# Altium footprint library common.PcbLib: 92 footprints (part 2 of 6)
Each footprint in its own frame and in the unit in brackets; x right, y up, seen from the top. Pads: shape width x height; smd on the part's side, far side on the other; paste and mask are expansions set on the pad; w line width, h text height; cw(c..) or ccw(c..) is an arc to the next point about the centre after c.
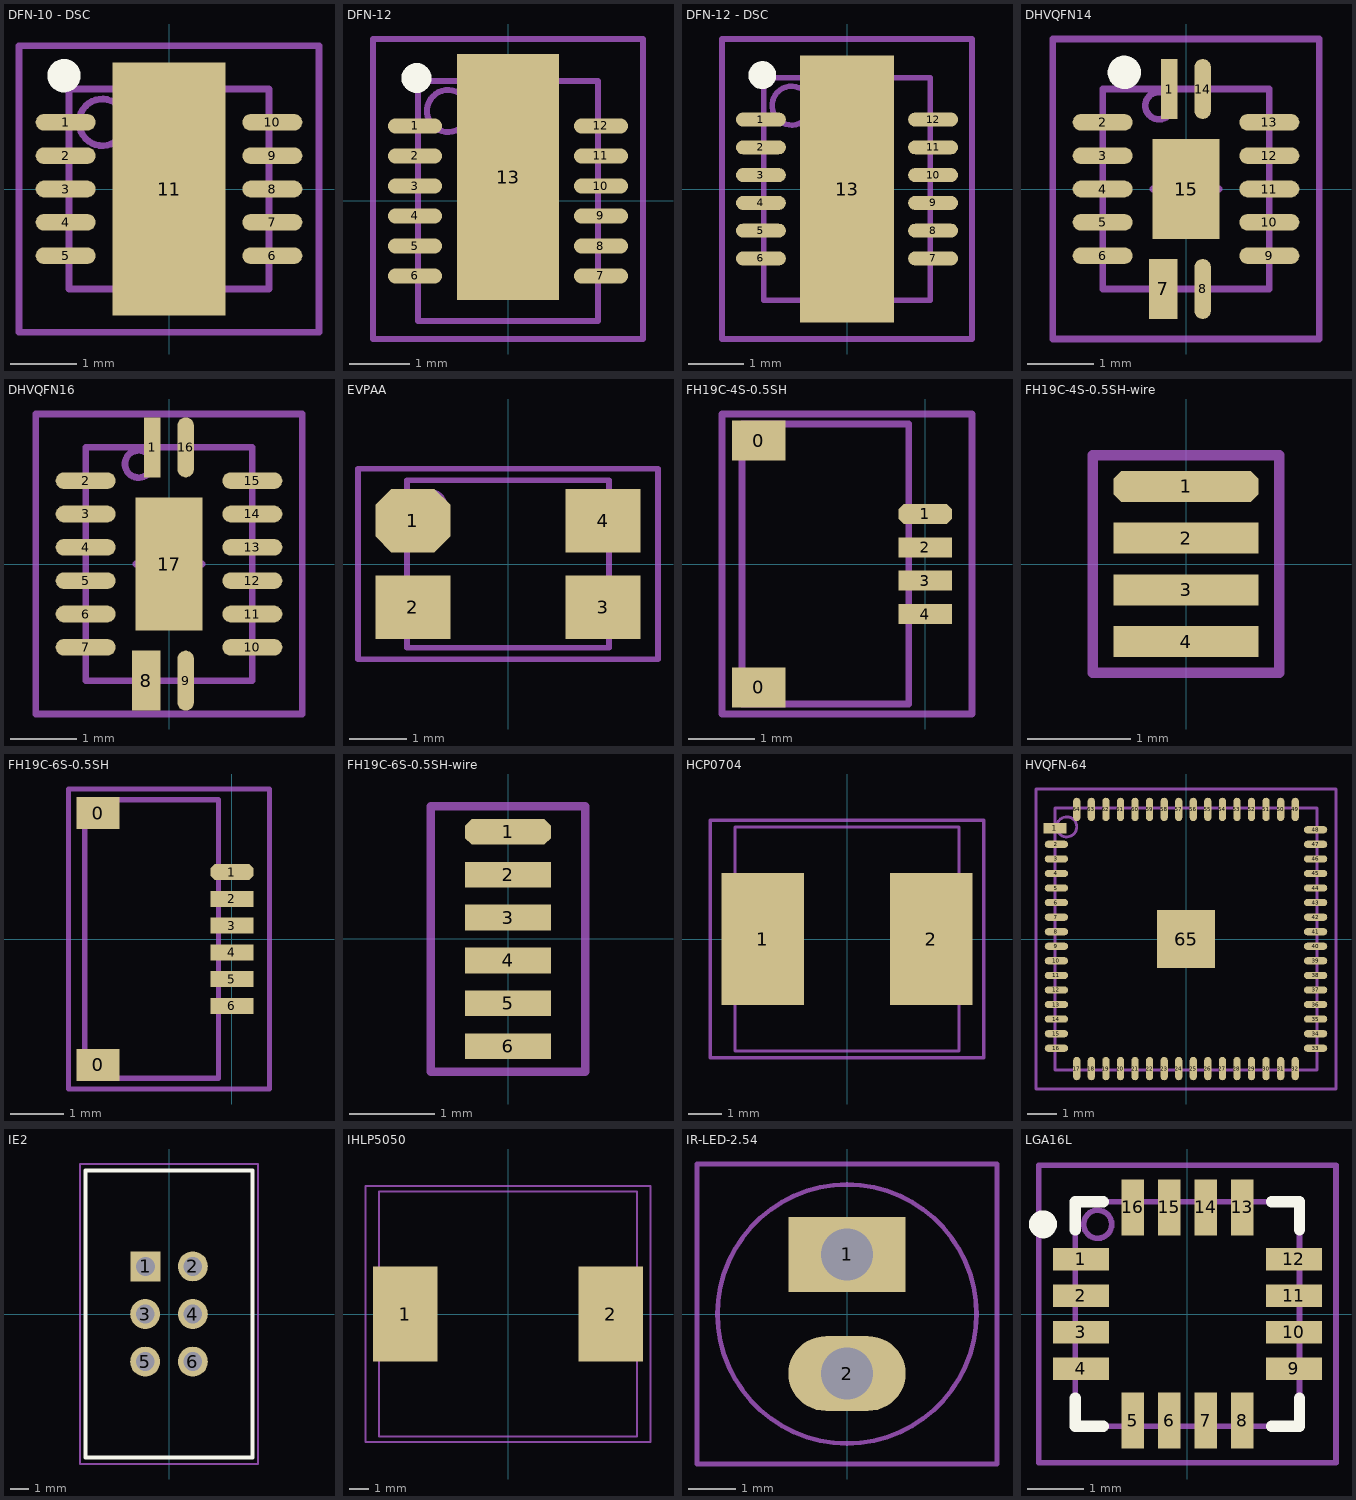
[diagram p1: the footprints below, top view; thin cyan lines are the x and y axes]

## DFN-10 - DSC [mm] "DFN with double solder connections, 10-Leads, Body 3x3mm, Pitch 0.5mm, IPC Low Density"
height 0.75
pads (11):
  oval 0.9x0.25 smd: 1(-1.55,1) 2(-1.55,0.5) 3(-1.55,0) 4(-1.55,-0.5) 5(-1.55,-1) 6(1.55,-1) 7(1.55,-0.5) 8(1.55,0) 9(1.55,0.5) 10(1.55,1)
  rect 1.7x3.8 smd: 11(0,0)
Top Overlay:
  circle w0.25: c-1.575,1.7 r0.125
Mechanical 13:
  circle w0.1: c-1,1 r0.35
  lines w0.1: -1.5,-1.5 1.5,-1.5 1.5,1.5 -1.5,1.5 ; -1.5,-1.5 -1.5,1.5 ; -1.5,-1.5 -1.5,1.5
Mechanical 15:
  lines w0.1: -2.25,-2.15 -2.25,2.15 2.25,2.15 2.25,-2.15 -2.25,-2.15
3D body: height 0.75, standoff 0, extent -1.5,-1.5 1.5,1.5

## DFN-12 [mm] "DFN, 12-Leads, Body 4x3mm, Pitch 0.5mm, IPC Low Density"
height 0.75
pads (13):
  oval 0.9x0.25 smd: 1(-1.55,1.25) 2(-1.55,0.75) 3(-1.55,0.25) 4(-1.55,-0.25) 5(-1.55,-0.75) 6(-1.55,-1.25) 7(1.55,-1.25) 8(1.55,-0.75) 9(1.55,-0.25) 10(1.55,0.25) 11(1.55,0.75) 12(1.55,1.25)
  rect 1.7x4.1 smd: 13(0,0.4)
Top Overlay:
  circle w0.25: c-1.525,2.05 r0.125
Mechanical 13:
  circle w0.1: c-1,1.5 r0.35
  lines w0.1: -1.5,-1.5 -1.5,2 1.5,2 1.5,-2 -1.5,-2 -1.5,1.5
Mechanical 15:
  lines w0.1: -2.25,-2.3 -2.25,2.7 2.25,2.7 2.25,-2.3 -2.25,-2.3
3D body: height 0.75, standoff 0, extent -1.5,-2 1.5,2

## DFN-12 - DSC [mm] "DFN with double solder connection, 12-Leads, Body 4x3mm, Pitch 0.5mm, IPC Low Density"
height 0.75
pads (13):
  oval 0.9x0.25 smd: 1(-1.55,1.25) 2(-1.55,0.75) 3(-1.55,0.25) 4(-1.55,-0.25) 5(-1.55,-0.75) 6(-1.55,-1.25) 7(1.55,-1.25) 8(1.55,-0.75) 9(1.55,-0.25) 10(1.55,0.25) 11(1.55,0.75) 12(1.55,1.25)
  rect 1.7x4.8 smd: 13(0,0)
Top Overlay:
  circle w0.25: c-1.525,2.05 r0.125
Mechanical 13:
  circle w0.1: c-1,1.5 r0.35
  lines w0.1: -1.5,-1.5 -1.5,2 1.5,2 1.5,-2 -1.5,-2 -1.5,1.5
Mechanical 15:
  lines w0.1: -2.25,-2.7 2.25,-2.7 2.25,2.7 -2.25,2.7 -2.25,-2.7
3D body: height 0.75, standoff 0, extent -1.5,-2 1.5,2

## DHVQFN14 [mm] "DHVQFN14, 14-Pin, Body 3.0x2.5mm, Pitch 0.5mm, IPC Low Density"
height 0.85
pads (15):
  rect 0.25x0.9 smd: 1(-0.25,1.5)
  oval 0.9x0.25 smd: 2(-1.25,1) 3(-1.25,0.5) 4(-1.25,0) 5(-1.25,-0.5) 6(-1.25,-1) 9(1.25,-1) 10(1.25,-0.5) 11(1.25,0) 12(1.25,0.5) 13(1.25,1)
  rect 0.425x0.9 smd: 7(-0.34,-1.5)
  oval 0.25x0.9 smd: 8(0.25,-1.5) 14(0.25,1.5)
  rect 1x1.5 smd: 15(0,0)
Top Overlay:
  circle w0.25: c-0.925,1.75 r0.125
Mechanical 13:
  circle w0.1: c-0.405,1.25 r0.205
  lines w0.1: -1.25,-1.5 1.25,-1.5 1.25,1.5 -1.25,1.5 -1.25,-1.5
Mechanical 15:
  lines w0.1: -0.5,0 0.5,0 ; 0,-0.5 0,0.5 ; -2,-2.25 2,-2.25 2,2.25 -2,2.25 -2,-2.25
3D body: height 0.85, standoff 0, extent -1.25,-1.5 1.25,1.5

## DHVQFN16 [mm] "DHVQFN16, 14-Pin, Body 3.5x2.5mm, Pitch 0.5mm, IPC Low Density"
height 0.85
pads (17):
  rect 0.25x0.9 smd: 1(-0.25,1.75)
  oval 0.9x0.25 smd: 2(-1.25,1.25) 3(-1.25,0.75) 4(-1.25,0.25) 5(-1.25,-0.25) 6(-1.25,-0.75) 7(-1.25,-1.25) 10(1.25,-1.25) 11(1.25,-0.75) 12(1.25,-0.25) 13(1.25,0.25) 14(1.25,0.75) 15(1.25,1.25)
  rect 0.425x0.9 smd: 8(-0.34,-1.75)
  oval 0.25x0.9 smd: 9(0.25,-1.75) 16(0.25,1.75)
  rect 1x2 smd: 17(0,0)
Mechanical 13:
  circle w0.1: c-0.455,1.5 r0.205
  lines w0.1: -1.25,-1.75 1.25,-1.75 1.25,1.75 -1.25,1.75 -1.25,-1.75
Mechanical 15:
  lines w0.1: -0.5,0 0.5,0 ; 0,-0.5 0,0.5 ; -2,-2.25 2,-2.25 2,2.25 -2,2.25 -2,-2.25
3D body: height 0.85, standoff 0, extent -1.25,-1.75 1.25,1.75

## EVPAA [mm] "Push button, Body 3.5x2.9mm, Pitch 2.1mm, IPC Low Density"
height 1.7
pads (4):
  oct 1.3x1.1 smd: 1(-1.65,0.75)
  rect 1.3x1.1 smd: 2(-1.65,-0.75) 3(1.65,-0.75) 4(1.65,0.75)
Mechanical 13:
  circle w0.1: c-1.35,1 r0.25
  lines w0.1: -1.75,-1.45 1.75,-1.45 1.75,1.45 -1.75,1.45 -1.75,-1.45
Mechanical 15:
  lines w0.1: -2.6,-1.65 2.6,-1.65 2.6,1.65 -2.6,1.65 -2.6,-1.65
3D body: height 1.7, standoff 0, extent -1.75,-1.45 1.75,1.45

## FH19C-4S-0.5SH [mm] "Board-to-flexible-PCB connector, 4 pins, Body 4.15x3mm, Pitch 0.5mm, IPC Low Density"
height 1
pads (6):
  rect 0.8x0.6 smd: 0(-2.5,-1.85) 0(-2.5,1.85)
  oct 0.8x0.3 smd: 1(0,0.75)
  rect 0.8x0.3 smd: 2(0,0.25) 3(0,-0.25) 4(0,-0.75)
Mechanical 13:
  lines w0.1: -0.25,-0.8 0.25,-0.8 0.25,-0.7 -0.25,-0.7 ; -0.25,-0.3 0.25,-0.3 0.25,-0.2 -0.25,-0.2 ; -0.25,0.2 0.25,0.2 0.25,0.3 -0.25,0.3 ; -0.25,0.7 0.25,0.7 0.25,0.8 -0.25,0.8 ; -2.75,-2.1 -2.75,2.1 -0.25,2.1 -0.25,-2.1 -2.75,-2.1
Mechanical 15:
  lines w0.1: -3.05,-2.25 -3.05,2.25 0.7,2.25 0.7,-2.25 -3.05,-2.25
3D body: height 1, standoff 0.7, extent -3.05,-2.1 -2.75,2.1
3D body: height 0.3, standoff 0, extent -0.25,0.65 0.25,0.85
3D body: height 0.3, standoff 0, extent -0.25,0.15 0.25,0.35
3D body: height 0.3, standoff 0, extent -0.25,-0.35 0.25,-0.15
3D body: height 0.3, standoff 0, extent -0.25,-0.85 0.25,-0.65
3D body: height 1, standoff 0, extent -2.75,-2.1 -0.25,2.1

## FH19C-4S-0.5SH-wire [mm] "Wire for Board-to-flexible-PCB connector, 4 pins, Body 2x0.5mm, Pitch 0.5mm, IPC Low Density"
pads (4):
  oct 1.4x0.3 smd: 1(0,0.75)
  rect 1.4x0.3 smd: 2(0,0.25) 3(0,-0.25) 4(0,-0.75)
Mechanical 15:
  lines w0.1: -0.9,-1.05 0.9,-1.05 0.9,1.05 -0.9,1.05 -0.9,-1.05

## FH19C-6S-0.5SH [mm] "Board-to-flexible-PCB connector, 6 pins, Body 5.15x3mm, Pitch 0.5mm, IPC Low Density"
height 1
pads (8):
  rect 0.8x0.6 smd: 0(-2.5,-2.35) 0(-2.5,2.35)
  oct 0.8x0.3 smd: 1(0,1.25)
  rect 0.8x0.3 smd: 2(0,0.75) 3(0,0.25) 4(0,-0.25) 5(0,-0.75) 6(0,-1.25)
Mechanical 13:
  lines w0.1: -0.25,-1.3 0.25,-1.3 0.25,-1.2 -0.25,-1.2 ; -0.25,-0.8 0.25,-0.8 0.25,-0.7 -0.25,-0.7 ; -0.25,-0.3 0.25,-0.3 0.25,-0.2 -0.25,-0.2 ; -0.25,0.2 0.25,0.2 0.25,0.3 -0.25,0.3 ; -0.25,0.7 0.25,0.7 0.25,0.8 -0.25,0.8 ; -0.25,1.2 0.25,1.2 0.25,1.3 -0.25,1.3 ; -2.75,-2.6 -2.75,2.6 -0.25,2.6 -0.25,-2.6 -2.75,-2.6
Mechanical 15:
  lines w0.1: -3.05,-2.8 -3.05,2.8 0.7,2.8 0.7,-2.8 -3.05,-2.8
3D body: height 0.3, standoff 0, extent -0.25,-1.35 0.25,-1.15
3D body: height 0.3, standoff 0, extent -0.25,-0.85 0.25,-0.65
3D body: height 1, standoff 0.7, extent -3.05,-2.6 -2.75,2.6
3D body: height 0.3, standoff 0, extent -0.25,1.15 0.25,1.35
3D body: height 0.3, standoff 0, extent -0.25,0.65 0.25,0.85
3D body: height 0.3, standoff 0, extent -0.25,0.15 0.25,0.35
3D body: height 0.3, standoff 0, extent -0.25,-0.35 0.25,-0.15
3D body: height 1, standoff 0, extent -2.75,-2.6 -0.25,2.6

## FH19C-6S-0.5SH-wire [mm] "Wire for Board-to-flexible-PCB connector, 6 pins, Body 2x0.5mm, Pitch 0.5mm, IPC Low Density"
pads (6):
  oct 1x0.3 smd: 1(0,1.25)
  rect 1x0.3 smd: 2(0,0.75) 3(0,0.25) 4(0,-0.25) 5(0,-0.75) 6(0,-1.25)
Mechanical 15:
  lines w0.1: -0.9,-1.55 0.9,-1.55 0.9,1.55 -0.9,1.55 -0.9,-1.55

## HCP0704 [mm] "Inductor from Coiltronics, Body 6.8x6.8mm, IPC Low Density"
height 4.2
pads (2):
  rect 2.5x4 smd: 1(-2.55,0) 2(2.55,0)
Mechanical 13:
  lines w0.1: -3.4,-3.4 3.4,-3.4 3.4,3.4 -3.4,3.4 -3.4,-3.4
Mechanical 15:
  lines w0.1: -4.15,-3.6 4.15,-3.6 4.15,3.6 -4.15,3.6 -4.15,-3.6
3D body: height 4.2, standoff 0, extent -3.4,-3.4 3.4,3.4

## HVQFN-64 [mm] "HVQFN 64-Pin, Body 9x9mm, Pitch 0.5mm, IPC Low Density"
height 0.85
pads (65):
  rect 0.8x0.35 smd: 1(-4.5,3.8)
  oval 0.8x0.25 smd: 2(-4.45,3.25) 3(-4.45,2.75) 4(-4.45,2.25) 5(-4.45,1.75) 6(-4.45,1.25) 7(-4.45,0.75) 8(-4.45,0.25) 9(-4.45,-0.25) 10(-4.45,-0.75) 11(-4.45,-1.25) 12(-4.45,-1.75) 13(-4.45,-2.25) 14(-4.45,-2.75) 15(-4.45,-3.25) 16(-4.45,-3.75) 33(4.45,-3.75) 34(4.45,-3.25) 35(4.45,-2.75) 36(4.45,-2.25) 37(4.45,-1.75) 38(4.45,-1.25) 39(4.45,-0.75) 40(4.45,-0.25) 41(4.45,0.25) 42(4.45,0.75) 43(4.45,1.25) 44(4.45,1.75) 45(4.45,2.25) 46(4.45,2.75) 47(4.45,3.25) 48(4.45,3.75)
  oval 0.25x0.8 smd: 17(-3.75,-4.45) 18(-3.25,-4.45) 19(-2.75,-4.45) 20(-2.25,-4.45) 21(-1.75,-4.45) 22(-1.25,-4.45) 23(-0.75,-4.45) 24(-0.25,-4.45) 25(0.25,-4.45) 26(0.75,-4.45) 27(1.25,-4.45) 28(1.75,-4.45) 29(2.25,-4.45) 30(2.75,-4.45) 31(3.25,-4.45) 32(3.75,-4.45) 49(3.75,4.45) 50(3.25,4.45) 51(2.75,4.45) 52(2.25,4.45) 53(1.75,4.45) 54(1.25,4.45) 55(0.75,4.45) 56(0.25,4.45) 57(-0.25,4.45) 58(-0.75,4.45) 59(-1.25,4.45) 60(-1.75,4.45) 61(-2.25,4.45) 62(-2.75,4.45) 63(-3.25,4.45) 64(-3.75,4.45)
  rect 2x2 smd: 65(0,0)
Mechanical 13:
  circle w0.1: c-4.095,3.85 r0.345
  lines w0.1: -4.5,-4.5 -4.5,4.5 4.5,4.5 4.5,-4.5 -4.5,-4.5
Mechanical 15:
  lines w0.1: -0.5,0 0.5,0 ; 0,-0.5 0,0.5 ; -5.15,-5.15 -5.15,5.15 5.15,5.15 5.15,-5.15 -5.15,-5.15
3D body: height 0.85, standoff 0, extent -4.5,-4.5 4.5,4.5

## IE2 [mm] "Connector Faulhaber Motor Encloder, Body 15.24x9.2mm, Pins 3x2, Grid 2.54mm"
height 9.5
pads (6):
  rect 1.6x1.6 hole 1: 1(-1.25,2.54)
  round 1.6 hole 1: 2(1.27,2.54) 3(-1.27,0) 4(1.27,0) 5(-1.27,-2.54) 6(1.27,-2.54)
Top Overlay:
  lines w0.2: -4.45,-7.65 -4.45,7.65 4.45,7.65 4.45,-7.65 -4.45,-7.65
Mechanical 13:
  lines w0.1: -4.45,-7.65 -4.45,7.65 4.45,7.65 4.45,-7.65 -4.45,-7.65
Mechanical 15:
  lines w0.1: -4.75,-8 -4.75,8 4.75,8 4.75,-8 -4.75,-8
3D body: height 8.3, standoff 3.3, extent -4.15,-1 -3.05,1
3D body: height 3.3, standoff 0, extent -3.15,-6.4 3.15,6.4
3D body: height 9.45, standoff 0, extent -4.45,2.05 -3.15,7.65
3D body: height 9.45, standoff 0, extent -4.45,6.4 4.45,7.65
3D body: height 9.45, standoff 0, extent -4.45,-7.65 4.45,-6.4
3D body: height 9.45, standoff 0, extent -4.45,-7.65 -3.15,-2.05
3D body: height 9.45, standoff 0, extent 3.15,-7.65 4.45,7.65
3D body: height 2.55, standoff 0, extent -4.45,-2.05 -3.15,2.05
3D body: height 14.1, standoff 3.3, extent -3.05,-6.1 3.05,6.1

## IHLP5050 [mm] "Inductor from Vishay/Dale, Body 13.2x12.9mm, IPC Low Density"
height 6.9
pads (2):
  rect 3.4x5 smd: 1(-5.4,0) 2(5.4,0)
Mechanical 13:
  lines w0.1: -6.8,-6.45 -6.8,6.45 6.8,6.45 6.8,-6.45 -6.8,-6.45
Mechanical 15:
  lines w0.1: -7.5,-6.75 -7.5,6.75 7.5,6.75 7.5,-6.75 -7.5,-6.75
3D body: height 6.9, standoff 0, extent -6.8,-6.45 6.8,6.45

## IR-LED-2.54 [mm] "2-pin LED connector, Pitch 2.54mm, IPC Low Density"
height 8
pads (2):
  rect 2.5x1.6 hole 1.1: 1(0,1.27)
  oval 2.5x1.6 hole 1.1: 2(0,-1.27)
Mechanical 13:
  circle w0.1: c0,0 r2.761
Mechanical 15:
  lines w0.1: -3.2,-3.2 -3.2,3.2 3.2,3.2 3.2,-3.2 -3.2,-3.2
3D body: height 8, standoff 0, extent -3,-2.994 2.976,2.994

## LGA16L [mm] "Land Grid Array, Body 4.0x4.0mm, Pitch 0.65mm, IPC Low Density"
height 1.5
pads (16):
  rect 1x0.4 smd: 1(-1.9,0.975) 2(-1.9,0.325) 3(-1.9,-0.325) 4(-1.9,-0.975) 9(1.9,-0.975) 10(1.9,-0.325) 11(1.9,0.325) 12(1.9,0.975)
  rect 0.4x1 smd: 5(-0.975,-1.9) 6(-0.325,-1.9) 7(0.325,-1.9) 8(0.975,-1.9) 13(0.975,1.9) 14(0.325,1.9) 15(-0.325,1.9) 16(-0.975,1.9)
Top Overlay:
  circle w0.25: c-2.575,1.6 r0.125
  lines w0.2: -2,-1.5 -2,-2 -1.5,-2 ; -2,1.5 -2,2 -1.5,2 ; 1.5,-2 2,-2 2,-1.5 ; 1.5,2 2,2 2,1.5
Mechanical 13:
  circle w0.1: c-1.6,1.6 r0.25
  lines w0.1: -2,-2 2,-2 2,2 -2,2 -2,-2
Mechanical 15:
  lines w0.1: -2.65,-2.65 2.65,-2.65 2.65,2.65 -2.65,2.65 -2.65,-2.65
3D body: height 1.5, standoff 0, extent -2,-2 2,2